# Altium footprint library 控制板PCB库.PcbLib: 2 footprints
Each footprint in its own frame and in the unit in brackets; x right, y up, seen from the top. Pads: shape width x height; smd on the part's side, far side on the other; paste and mask are expansions set on the pad; w line width, h text height; cw(c..) or ccw(c..) is an arc to the next point about the centre after c.
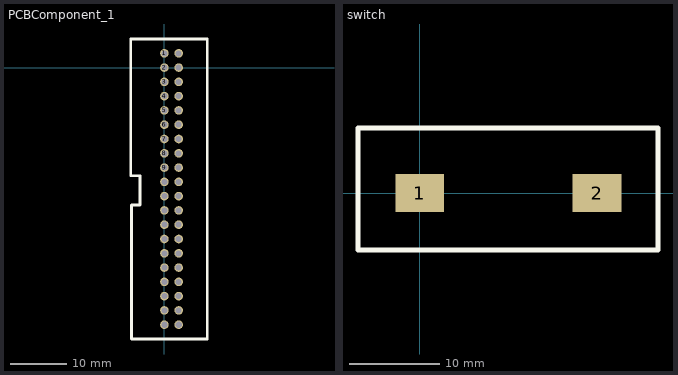
[diagram p0: the footprints below, top view; thin cyan lines are the x and y axes]

## PCBComponent_1 [mil]
pads (40):
  round 60 hole 41.73: 1(0,100) 2(0,0) 3(0,-100) 4(0,-200) 5(0,-300) 6(0,-400) 7(0,-500) 8(0,-600) 9(0,-700) 10(0,-800) 11(0,-900) 12(0,-1000) 13(0,-1100) 14(0,-1200) 15(0,-1300) 16(0,-1400) 17(0,-1500) 18(0,-1600) 19(0,-1700) 21(100,100) 22(100,0) 23(100,-100) 24(100,-200) 25(100,-300) 26(100,-400) 27(100,-500) 28(100,-600) 29(100,-700) 30(100,-800) 31(100,-900) 32(100,-1000) 33(100,-1100) 34(100,-1200) 35(100,-1300) 36(100,-1400) 37(100,-1500) 38(100,-1600) 39(100,-1700)
  round 60 hole 42.52: 20(0,-1800) 40(100,-1800)
Top Overlay:
  lines w20: -231,-965 -231,-1900 300,-1900 300,200 -236,200 -236,-757 -171,-757 -171,-963 -230,-963

## switch [mm]
pads (2):
  rect 5.4x4.2 smd: 1(0,0) 2(19.685,0)
Top Overlay:
  lines w0.508: -6.833,7.214 -6.833,-6.325 26.441,-6.325 26.441,7.214 -4.115,7.214 -6.68,7.214